# Altium schematic symbol library Schlib1.SchLib: 2 symbols
Pins are listed as number, name and electrical type; pins without a type are passive.

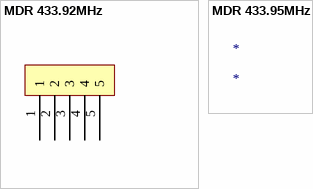
[diagram p0: symbols MDR 433.92MHz to MDR 433.95MHz]

## MDR 433.92MHz
designator *
pins: 1, 2, 3, 4, 5

## MDR 433.95MHz
designator *